# EAGLE library part LPY410ALTR (library CC2530_PCB_TL)
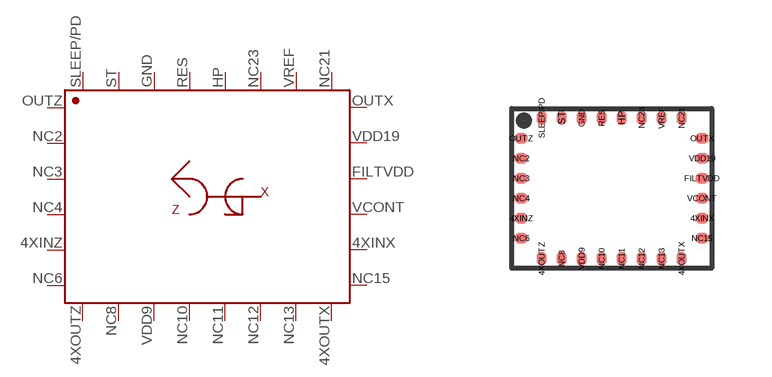
[diagram p19: symbol with the pads of LPY410ALTR; footprint LPY410ALTR]

Designator prefix -

## LPY410ALTR  [LPY410ALTR]
4XINX  4XINX  in
4XINZ  4XINZ  in
4XOUTX  4XOUTX  out
4XOUTZ  4XOUTZ  out
FILTVDD  FILTVDD
GND  GND  pwr
HP  HP
NC2  NC2  nc
NC3  NC3  nc
NC4  NC4  nc
NC6  NC6  nc
NC8  NC8  nc
NC10  NC10  nc
NC11  NC11  nc
NC12  NC12  nc
NC13  NC13  nc
NC15  NC15  nc
NC21  NC21  nc
NC23  NC23  nc
OUTX  OUTX  out
OUTZ  OUTZ  out
RES  RES  nc
SLEEP/PD  SLEEP/PD
ST  ST
VCONT  VCONT
VDD9  VDD9  pwr
VDD19  VDD19  pwr
VREF  VREF  pwr

## Footprint LPY410ALTR (pad centres in mm)
smd 0.325 x 0.25: 4XINX 2.263,-0.75; 4XINZ -2.263,-0.75; FILTVDD 2.263,0.25; NC2 -2.263,0.75; NC3 -2.263,0.25; NC4 -2.263,-0.25; NC6 -2.263,-1.25; NC15 2.263,-1.25; OUTX 2.263,1.25; OUTZ -2.263,1.25; VCONT 2.263,-0.25; VDD19 2.263,0.75
smd 0.25 x 0.325: 4XOUTX 1.75,-1.762; 4XOUTZ -1.75,-1.762; GND -0.75,1.762; HP 0.25,1.762; NC8 -1.25,-1.762; NC10 -0.25,-1.762; NC11 0.25,-1.762; NC12 0.75,-1.762; NC13 1.25,-1.762; NC21 1.75,1.762; NC23 0.75,1.762; RES -0.25,1.762; SLEEP/PD -1.75,1.762; ST -1.25,1.762; VDD9 -0.75,-1.762; VREF 1.25,1.762